# EAGLE library part 1734592-8 (library FPC FFC Connectors)
CONN FPC BOTTOM 8POS 0.50MM R/A Manufacturer's datasheet <https://www.te.com/commerce/DocumentDelivery/DDEController?Action=srchrtrv&DocNm=1734592&DocType=Customer+Drawing&DocLang=English>
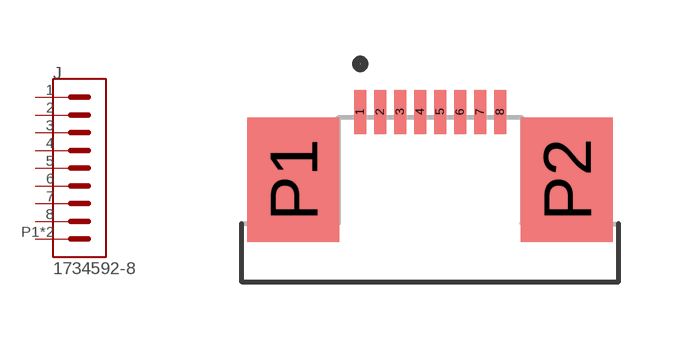
[diagram p12: symbol with the pads of 1734592-8; footprint 1734592-8]

Designator prefix J

## 1734592-8 (CREATED_BY: PCBLayout.com; DIGIKEY_PART_NUMBER: A100281TR-ND; MANUFACTURER: TE Connectivity AMP Connectors; MPN: 1734592-8)  [1734592-8]
1  1  pas
2  2  pas
3  3  pas
4  4  pas
5  5  pas
6  6  pas
7  7  pas
8  8  pas
P1  SHIELD  pwr
P2  SHIELD  pwr

## Footprint 1734592-8 (pad centres in mm)
smd 0.3 x 1.1: 1 -1.75,0; 2 -1.25,0; 3 -0.75,0; 4 -0.25,0; 5 0.25,0; 6 0.75,0; 7 1.25,0; 8 1.75,0
smd 2.3 x 3.1: P1 -3.42,-1.7; P2 3.42,-1.7